# Altium schematic symbol library Memory_Expansion_Daughter_Board_SchLib.SchLib: 17 symbols
Pins are listed as number, name and electrical type; pins without a type are passive.

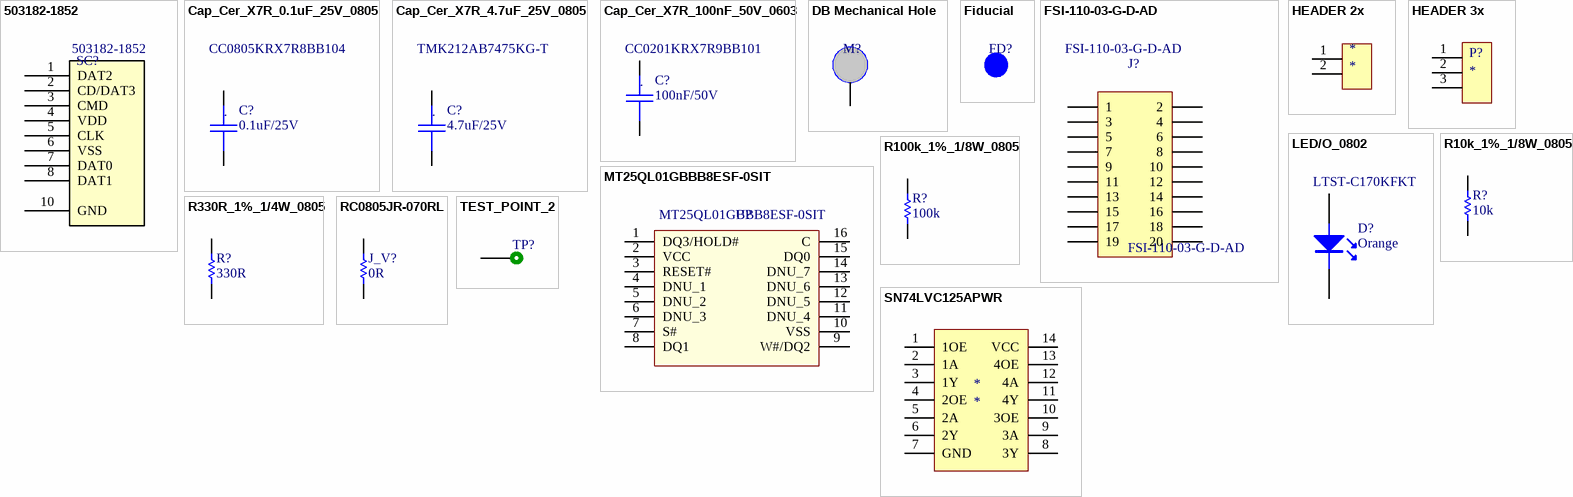
[diagram p0: symbols 503182-1852 to TEST_POINT_2]

## 503182-1852
designator SC?, comment Manufacturer Part Number: 503182-1852  (hidden comment: MicroSD Card Connector)
MOLEX - 503182-1852 - Micro SD Normal UltraLowPro8CktEmbsTpPkg RoHS Compliant: Yes; Gender: Male; Number of Circuits: 8; Pitch: 1.1mm; Supplier 1: Digi-Key; Supplier Part Number 1: WM12834CT-ND; Manufacturer: Molex; Stock 1: 15724; Pricing 1: 1=2.45, 10=2.224, 25=2.0884, 50=1.9974, 100=1.9067, 250=1.72508, 500=1.5889 (USD); Mount: Surface Mount; Contact Material: Copper Alloy; Contact Plating: Gold; Housing Material: Polymer; Min Operating Temperature: -25°C; Max Operating Temperature: 85°C; Number of Rows: 1; Package Quantity: 1600; Packaging: Tape and Reel; Connector Type: Connector; Termination: Solder; Orientation: Right Angle; Length: 15.2mm; Depth: 14.95mm; REACH SVHC: No SVHC; Halogen Free: Low Halogen; ComponentLink1URL: https://www.molex.com/pdm_docs/sd/5031821852_sd.pdf?src-supplier=Digi-Key; ComponentLink1Description: https://www.molex.com/pdm_docs/sd/5031821852_sd.pdf?src-supplier=Digi-Key; ComponentLink2URL: http://www.farnell.com/datasheets/2701359.pdf?src-supplier=Element14; ComponentLink2Description: http://www.farnell.com/datasheets/2701359.pdf?src-supplier=Element14; ComponentLink3URL: http://www.farnell.com/datasheets/2701359.pdf?src-supplier=Farnell; ComponentLink3Description: http://www.farnell.com/datasheets/2701359.pdf?src-supplier=Farnell; ComponentLink4URL: http://www.molex.com/pdm_docs/sd/5031821852_sd.pdf?src-supplier=Digi-Key; ComponentLink4Description: http://www.molex.com/pdm_docs/sd/5031821852_sd.pdf?src-supplier=Digi-Key; ComponentLink5URL: http://components.arrow.com/part/dataview/0323_07103516?src-supplier=Arrow+Europe; ComponentLink5Description: http://components.arrow.com/part/dataview/0323_07103516?src-supplier=Arrow+Europe; ComponentLink6URL: http://www.farnell.com/datasheets/2701359.pdf?src-supplier=Newark; ComponentLink6Description: http://www.farnell.com/datasheets/2701359.pdf?src-supplier=Newark; Supplier 2: Mouser; Supplier Part Number 2: 538-503182-1852; Stock 2: 10562; Pricing 2: 1=2.22, 10=1.81, 100=1.56, 500=1.44, 1000=1.23, 1600=1.15, 4800=1.07, 9600=1.03, 24000=1 (USD)
footprint USD_CARD
pins: 1 DAT2, 2 CD/DAT3, 3 CMD, 4 VDD, 5 CLK, 6 VSS, 7 DAT0, 8 DAT1, 10 GND

## Cap_Cer_X7R_0.1uF_25V_0805
designator C?, comment 0.1uF/25V  Manufacturer Part Number: CC0805KRX7R8BB104
CAP CER 0.1UF 25V 10% X7R 0805; Manufacturer: Yageo; Material: Ceramic; Capacitance: 100nF; Insulation Resistance: 100GR; Partnumber: CC0805KRX7R8BB104; NCM: 8532.24.10; Stock 1: 243958; Pricing 1: 1=0.14, 10=0.097, 100=0.0458, 500=0.0321, 1000=0.02658 (USD); Mount: Surface Mount; Case/Package: 0805; Number of Pins: 2; Case Code (Metric): 2012; Case Code (Imperial): 0805; Min Operating Temperature: -55°C; Max Operating Temperature: 125°C; Tolerance: 10%; Dielectric: X7R; Package Quantity: 1; Voltage Rating: 25V; Packaging: Tape and Reel; Voltage Rating (DC): 25V; Termination: SMD/SMT; Composition: Ceramic; Length: 2mm; Height: 0.85mm; Depth: 1.25mm; Width: 0.049inch; Thickness: 0.033inch; Radiation Hardening: No; REACH SVHC: No SVHC; Lead Free: Lead Free; Halogen Free: Halogen Free; ComponentLink3URL: http://www.yageo.com/documents/recent/UPY-GPHC_X7R_6.3V-to-50V_18.pdf?src-supplier=Digi-Key; ComponentLink3Description: http://www.yageo.com/documents/recent/UPY-GPHC_X7R_6.3V-to-50V_18.pdf?src-supplier=Digi-Key; ComponentLink4URL: http://www.farnell.com/datasheets/1489800.pdf?src-supplier=Element14; ComponentLink4Description: http://www.farnell.com/datasheets/1489800.pdf?src-supplier=Element14; ComponentLink5URL: http://www.farnell.com/datasheets/1850775.pdf?src-supplier=Element14; ComponentLink5Description: http://www.farnell.com/datasheets/1850775.pdf?src-supplier=Element14; ComponentLink6URL: https://www.verical.com/server-webapp/html/getDatasheet?partID=330244&src-supplier=Verical; ComponentLink6Description: https://www.verical.com/server-webapp/html/getDatasheet?partID=330244&src-supplier=Verical; ComponentLink7URL: http://www.yageo.com/documents/recent/UPY-GPHC_X7R_6.3V-to-50V_8.pdf?src-supplier=Avnet+Europe; ComponentLink7Description: http://www.yageo.com/documents/recent/UPY-GPHC_X7R_6.3V-to-50V_8.pdf?src-supplier=Avnet+Europe; ComponentLink8URL: http://www.farnell.com/datasheets/1784427.pdf?src-supplier=Element14; ComponentLink8Description: http://www.farnell.com/datasheets/1784427.pdf?src-supplier=Element14; ComponentLink9URL: http://www.farnell.com/datasheets/70765.pdf?src-supplier=Element14; ComponentLink9Description: http://www.farnell.com/datasheets/70765.pdf?src-supplier=Element14; Stock 2: 131050; Pricing 2: 1=0.11, 10=0.08, 100=0.03, 1000=0.025, 4000=0.019, 8000=0.018, 24000=0.015, 48000=0.014, 100000=0.013 (USD); ComponentLink1URL: http://www.yageo.com/documents/recent/UPY-GPHC_X7R_6.3V-to-50V_18.pdf?src-supplier=Digi-Key; ComponentLink1Description: http://www.yageo.com/documents/recent/UPY-GPHC_X7R_6.3V-to-50V_18.pdf?src-supplier=Digi-Key; ComponentLink2URL: http://www.farnell.com/datasheets/1489800.pdf?src-supplier=Element14; ComponentLink2Description: http://www.farnell.com/datasheets/1489800.pdf?src-supplier=Element14; Supplier Part Number 2: 603-CC805KRX7R8BB104; Supplier Part Number 1: 311-1141-1-ND; Supplier 2: Mouser; Supplier 1: Digi-Key
footprint C0805_MD (Chip Capacitor, Body 2.0x1.3mm, IPC Medium Density)
pins: 1, 2
text: .

## Cap_Cer_X7R_4.7uF_25V_0805
designator C?, comment 4.7uF/25V  Manufacturer Part Number: TMK212AB7475KG-T
CAP CER 4.7UF 25V 10% X7R 0805; Partnumber: C0805C475K3RACAUTO; Manufacturer: Taiyo Yuden; NCM: 8532.24.10; ComponentLink1Description: https://www.digikey.com/product-detail/en/taiyo-yuden/TMK212AB7475KG-T/587-2990-2-ND/2714168; ComponentLink1URL: https://www.digikey.com/product-detail/en/taiyo-yuden/TMK212AB7475KG-T/587-2990-2-ND/2714168; ComponentLink2Description: https://br.mouser.com/ProductDetail/Taiyo-Yuden/TMK212AB7475KG-T?qs=%2Fha2pyFaduhOmvqoBXaf2AOtUPA8upoo0e72F1hCYb1lacT8UkHI0g%3D%3D; ComponentLink2URL: https://br.mouser.com/ProductDetail/Taiyo-Yuden/TMK212AB7475KG-T?qs=%2Fha2pyFaduhOmvqoBXaf2AOtUPA8upoo0e72F1hCYb1lacT8UkHI0g%3D%3D; Stock 1: 1594936; Pricing 1: 1=0.35, 10=0.243, 100=0.1376, 500=0.09716, 1000=0.08501 (USD); Mount: Surface Mount; Case/Package: 0805; Number of Pins: 2; Case Code (Metric): 2012; Case Code (Imperial): 0805; Min Operating Temperature: -55°C; Max Operating Temperature: 125°C; Package Quantity: 1; Capacitance: 4.7uF; Voltage Rating: 25V; Tolerance: 10%; Packaging: Tape and Reel; Voltage Rating (DC): 25V; Dielectric: X7R; Termination: SMD/SMT; Composition: Ceramic; Length: 2mm; Height: 1.25mm; Width: 0.049inch; Thickness: 0.053inch; Depth: 1.25mm; Radiation Hardening: No; REACH SVHC: Unknown; ComponentLink3URL: https://www.yuden.co.jp/productdata/catalog/mlcc_all_e.pdf?src-supplier=Digi-Key; ComponentLink3Description: https://www.yuden.co.jp/productdata/catalog/mlcc_all_e.pdf?src-supplier=Digi-Key; ComponentLink4URL: http://www.yuden.co.jp/ut/product/category/capacitor/TMK212AB7475KG-T.pdf?src-supplier=Avnet; ComponentLink4Description: http://www.yuden.co.jp/ut/product/category/capacitor/TMK212AB7475KG-T.pdf?src-supplier=Avnet; ComponentLink5URL: http://www.farnell.com/datasheets/1481447.pdf?src-supplier=Element14; ComponentLink5Description: http://www.farnell.com/datasheets/1481447.pdf?src-supplier=Element14; ComponentLink6URL: http://www.onlinecomponents.com/productFiles/mf-TAI/461tmk212ab7475kg-t.pdf?src-supplier=Onlinecomponents.com; ComponentLink6Description: http://www.onlinecomponents.com/productFiles/mf-TAI/461tmk212ab7475kg-t.pdf?src-supplier=Onlinecomponents.com; Supplier 1: Digi-Key; Supplier Part Number 1: 587-2990-6-ND; Supplier 2: Mouser; Supplier Part Number 2: 963-TMK212AB7475KG-T; Stock 2: 326053; Pricing 2: 1=0.27, 10=0.124, 100=0.083, 500=0.074, 1000=0.065, 3000=0.054 (USD)
footprint C0805_MD (Chip Capacitor, Body 2.0x1.3mm, IPC Medium Density)
pins: 1, 2
text: .

## Cap_Cer_X7R_100nF_50V_0603
designator C?, comment 100nF/50V  Manufacturer Part Number: CC0201KRX7R9BB101
CAP CER 100nF 50V 0603 10%; Partnumber: C0603C104K5RAC3121; Manufacturer: Yageo; Capacitance: 100pF; Dielectric: X7R; NCM: 8532.24.10; ComponentLink1Description: https://www.digikey.com/product-detail/en/yageo/CC0201KRX7R9BB101/311-1401-1-ND/2833707; ComponentLink1URL: https://www.digikey.com/product-detail/en/yageo/CC0201KRX7R9BB101/311-1401-1-ND/2833707; ComponentLink2Description: https://br.mouser.com/ProductDetail/Yageo/CC0201KRX7R9BB101?qs=%2Fha2pyFaduiYipKOFrxfqt3%252B9aGSfhofiweIoBBppi5CkwQHqUahpQ%3D%3D; ComponentLink2URL: https://br.mouser.com/ProductDetail/Yageo/CC0201KRX7R9BB101?qs=%2Fha2pyFaduiYipKOFrxfqt3%252B9aGSfhofiweIoBBppi5CkwQHqUahpQ%3D%3D; Supplier 1: Digi-Key; Supplier Part Number 1: 311-1401-1-ND; Stock 1: 203642; Pricing 1: 1=0.1, 10=0.017, 100=0.0078, 500=0.00554, 1000=0.00436, 2500=0.00396, 5000=0.00364 (USD); Mount: Surface Mount; Case/Package: 0201; Weight: 6E-06oz; Case Code (Metric): 0603; Case Code (Imperial): 0201; Min Operating Temperature: -55°C; Max Operating Temperature: 125°C; Tolerance: 10%; Package Quantity: 1; Voltage Rating: 50V; Packaging: Tape and Reel; Voltage Rating (DC): 50V; Termination: SMD/SMT; Composition: Ceramic; Length: 0.6mm; Height: 0.3mm; Width: 0.012inch; Thickness: 0.013inch; Depth: 0.3mm; Radiation Hardening: No; Lead Free: Lead Free; Halogen Free: Halogen Free; ComponentLink3URL: http://www.yageo.com/documents/recent/UPY-GPHC_X7R_6.3V-to-50V_18.pdf?src-supplier=Digi-Key; ComponentLink3Description: http://www.yageo.com/documents/recent/UPY-GPHC_X7R_6.3V-to-50V_18.pdf?src-supplier=Digi-Key; ComponentLink4URL: http://www.yageo.com/documents/recent/UPY-GPHC_X7R_6.3V-to-50V_8.pdf?src-supplier=Avnet+Europe; ComponentLink4Description: http://www.yageo.com/documents/recent/UPY-GPHC_X7R_6.3V-to-50V_8.pdf?src-supplier=Avnet+Europe; ComponentLink5URL: http://www.yageo.com/documents/recent/UPY-GPHC_X7R_6.3V-to-50V_8.pdf?src-supplier=Avnet; ComponentLink5Description: http://www.yageo.com/documents/recent/UPY-GPHC_X7R_6.3V-to-50V_8.pdf?src-supplier=Avnet; ComponentLink6URL: http://www.mouser.com/ds/2/447/Yageo_UPY-GP_NP0_16V-to-50V_9-358835.pdf?src-supplier=Mouser; ComponentLink6Description: http://www.mouser.com/ds/2/447/Yageo_UPY-GP_NP0_16V-to-50V_9-358835.pdf?src-supplier=Mouser; Supplier 2: Mouser; Supplier Part Number 2: 603-CC201KRX7R9BB101; Stock 2: 51204; Pricing 2: 1=0.1, 10=0.024, 100=0.011, 1000=0.009, 2500=0.006, 10000=0.006 (USD)
footprint C0603_MD (Chip Capacitor, Body 1.6x0.8mm, IPC Medium Density)
pins: 1, 2
text: .

## DB Mechanical Hole
designator M?  (value not drawn)  (no BOM)
Mechanical Hole for DB board variants
footprint DB Mechanical Hole
pins: 0

## Fiducial
designator FD?  (value not drawn)  (no BOM)
Fiducial for DB board variants
footprint Fiducial 1.3mm

## FSI-110-03-G-D-AD
designator J?
CONN STACKING 20POS SMD GOLD; Manufacturer: Samtec; Number of Contacts: 20; Gender: Male; Pitch: 1mm; Value: *; Partnumber: FSI-110-03-G-D-AD; ComponentLink1Description: https://www.digikey.com/product-detail/en/samtec-inc/FSI-110-03-G-D-AD/SAM9412-ND/6678149; ComponentLink1URL: https://www.digikey.com/product-detail/en/samtec-inc/FSI-110-03-G-D-AD/SAM9412-ND/6678149; ComponentLink2Description: https://br.mouser.com/ProductDetail/Samtec/FSI-110-03-G-D-AD?qs=sGAEpiMZZMvffgRu4KC1RxM6nKwEP14AvPoIU%2FGiIRnIunfAN0MvNQ%3D%3D; ComponentLink2URL: https://br.mouser.com/ProductDetail/Samtec/FSI-110-03-G-D-AD?qs=sGAEpiMZZMvffgRu4KC1RxM6nKwEP14AvPoIU%2FGiIRnIunfAN0MvNQ%3D%3D; Supplier 1: Digi-Key; Supplier Part Number 1: SAM9412-ND; Stock 1: 100; Pricing 1: 1=6.6, 10=6.325, 25=5.7752, 50=5.5, 100=5.225, 250=4.675, 500=4.4, 1000=3.85, 2500=3.6575 (USD); Mount: Surface Mount; Contact Plating: Gold; Contact Material: Copper; Number of Rows: 2; Termination: Solder; Radiation Hardening: No; REACH SVHC: No SVHC; ComponentLink3URL: http://www.samtec.com/ftppub/pdf/FSI_03.PDF?src-supplier=Avnet+Europe; ComponentLink3Description: http://www.samtec.com/ftppub/pdf/FSI_03.PDF?src-supplier=Avnet+Europe; Supplier 2: Mouser; Supplier Part Number 2: 200-FSI11003GDAD; Stock 2: 50; Pricing 2: 1=6.59, 10=5.5, 100=4.68, 250=4.17, 500=3.84, 1000=3.6 (USD); Manufacturer Part Number: FSI-110-03-G-D-AD
footprint Mating FSI-110-03-G-D-AD
pins: 1, 2, 3, 4, 5, 6, 7, 8, 9, 10, 11, 12, 13, 14, 15, 16, 17, 18, 19, 20

## HEADER 2x
designator *
Conn Unshrouded Header HDR 2 POS 2.54mm Solder RA Thru-Hole Automotive Bulk; Manufacturer: Samtec; Manufacturer Part Number: TSW-102-08-G-S-RA; Number of Positions: 2; Connector Type: Male Pin; Gender: Male; Max Current Rating: 7.6A; Max Voltage Rating (AC): 450V; Supplier 1: Digi-Key; Stock 1: 681; Pricing 1: 1=0.28, 10=0.269, 25=0.2304, 50=0.1958, 100=0.1882, 250=0.16896, 500=0.16128 (USD); Contact Plating: Gold; Contact Material: Bronze; Color: Black; Housing Color: Black; Housing Material: Polyester; Min Operating Temperature: -55°C; Max Operating Temperature: 125°C; Number of Rows: 1; Termination: Solder; Packaging: Bulk; Number of Contacts: 2; Orientation: Right Angle; Package Quantity: 1; Length: 5.08mm; Pitch: 2.54mm; Width: 2.54mm; Depth: 9.9mm; Contact Mating Length: 0.23inch; Radiation Hardening: No; Lead Free: Lead Free; REACH SVHC: No SVHC; Supplier Part Number 1: SAM1039-02-ND; ComponentLink3Description: https://www.digikey.com/product-detail/en/samtec-inc/TSW-102-08-G-S-RA/SAM1039-02-ND/1101822; ComponentLink3URL: https://www.digikey.com/product-detail/en/samtec-inc/TSW-102-08-G-S-RA/SAM1039-02-ND/1101822; ComponentLink4Description: https://br.mouser.com/ProductDetail/Samtec/TSW-102-08-G-S-RA?qs=sGAEpiMZZMs%252BGHln7q6pm8Vn94ktop%2FJ1uezLg%252BX1dFCcXJp94NfRw%3D%3D; ComponentLink4URL: https://br.mouser.com/ProductDetail/Samtec/TSW-102-08-G-S-RA?qs=sGAEpiMZZMs%252BGHln7q6pm8Vn94ktop%2FJ1uezLg%252BX1dFCcXJp94NfRw%3D%3D; ComponentLink1URL: http://www.samtec.com/ftppub/pdf/htsw_th.pdf?src-supplier=Avnet; ComponentLink1Description: http://www.samtec.com/ftppub/pdf/htsw_th.pdf?src-supplier=Avnet; ComponentLink2URL: http://suddendocs.samtec.com/prints/tsw-xxx-xx-x-x-xx-xxx-footprint.pdf?src-supplier=Digi-Key; ComponentLink2Description: http://suddendocs.samtec.com/prints/tsw-xxx-xx-x-x-xx-xxx-footprint.pdf?src-supplier=Digi-Key; Supplier 2: Mouser; Supplier Part Number 2: 200-TSW10208GSRA; Stock 2: 90; Pricing 2: 1=0.29, 10=0.203, 100=0.167, 1000=0.14, 2500=0.119, 10000=0.108 (USD)
footprint HEADER 1X2
pins: 1, 2

## HEADER 3x
designator P?
Conn Unshrouded Header HDR 3 POS 2.54mm Solder RA Thru-Hole Automotive Bulk; Manufacturer: Samtec; Manufacturer Part Number: TSW-103-08-G-S-RA; Number of Contacts: 3; Connector Type: Male Pin; Gender: Male; Max Current Rating: 7.6A; Max Voltage Rating (AC): 450V; Supplier 1: Digi-Key; Stock 1: 2099; Pricing 1: 1=0.43, 10=0.403, 25=0.3456, 50=0.2938, 100=0.2822, 250=0.25344, 500=0.24192 (USD); Contact Plating: Gold; Contact Material: Bronze; Color: Black; Housing Color: Black; Housing Material: Polyester; Min Operating Temperature: -55°C; Max Operating Temperature: 125°C; Number of Rows: 1; Termination: Solder; Packaging: Bulk; Number of Positions: 3; Package Quantity: 1; Orientation: Right Angle; Length: 7.62mm; Pitch: 2.54mm; Depth: 9.9mm; Contact Mating Length: 0.23inch; Width: 2.54mm; Radiation Hardening: No; REACH SVHC: No SVHC; Lead Free: Lead Free; Supplier Part Number 1: SAM1039-03-ND; ComponentLink4Description: https://www.digikey.com/product-detail/en/samtec-inc/TSW-103-08-G-S-RA/SAM1039-03-ND/1101821; ComponentLink4URL: https://www.digikey.com/product-detail/en/samtec-inc/TSW-103-08-G-S-RA/SAM1039-03-ND/1101821; ComponentLink5Description: https://br.mouser.com/ProductDetail/Samtec/TSW-103-08-G-S-RA?qs=sGAEpiMZZMs%252BGHln7q6pm1g2HIpDMMemHovqpYNR5zQ9xV6Y7S0zpg%3D%3D; ComponentLink5URL: https://br.mouser.com/ProductDetail/Samtec/TSW-103-08-G-S-RA?qs=sGAEpiMZZMs%252BGHln7q6pm1g2HIpDMMemHovqpYNR5zQ9xV6Y7S0zpg%3D%3D; ComponentLink1URL: http://www.samtec.com/ftppub/pdf/htsw_th.pdf?src-supplier=Avnet+Europe; ComponentLink1Description: http://www.samtec.com/ftppub/pdf/htsw_th.pdf?src-supplier=Avnet+Europe; ComponentLink2URL: http://www.samtec.com/ftppub/pdf/htsw_th.pdf?src-supplier=Avnet; ComponentLink2Description: http://www.samtec.com/ftppub/pdf/htsw_th.pdf?src-supplier=Avnet; ComponentLink3URL: http://suddendocs.samtec.com/prints/tsw-xxx-xx-x-x-xx-xxx-footprint.pdf?src-supplier=Digi-Key; ComponentLink3Description: http://suddendocs.samtec.com/prints/tsw-xxx-xx-x-x-xx-xxx-footprint.pdf?src-supplier=Digi-Key; Supplier 2: Mouser; Supplier Part Number 2: 200-TSW10308GSRA; Stock 2: 1859; Pricing 2: 1=0.44, 10=0.303, 100=0.249, 1000=0.208, 2500=0.178, 10000=0.16 (USD)
footprint Header1x3
pins: 1, 2, 3

## LED/O_0802
designator D?, comment Orange  Manufacturer Part Number: LTST-C170KFKT
SMD Orange LED; Manufacturer: Vishay Lite-On; Lens Color: Colorless; Luminous Intensity: 60mcd; Forward Current: 30mA; Viewing Angle: 130°; Forward Voltage: 2V; Lens Style: Diffused,Colorless,Rectangular,Clear; Dominant Wavelength: 605nm; Test Current: 20mA; Lens Transparency: Clear; Wavelength: 611nm; Number of LEDs: 1; Power Rating: 75mW; Reverse Voltage: 5V; Partnumber: LTST-C170KFKT; NCM: 8541.40.21; ComponentLink1Description: https://www.digikey.com/product-detail/en/lite-on-inc/LTST-C170KFKT/160-1413-1-ND/386774; ComponentLink1URL: https://www.digikey.com/product-detail/en/lite-on-inc/LTST-C170KFKT/160-1413-1-ND/386774; ComponentLink2Description: https://br.mouser.com/ProductDetail/Lite-On/LTST-C170KFKT?qs=%2Fha2pyFadugHsX7bdQzWjMrioqtf8F%2FEFUVxYkqdVx%252BrRWuVMVludQ%3D%3D; ComponentLink2URL: https://br.mouser.com/ProductDetail/Lite-On/LTST-C170KFKT?qs=%2Fha2pyFadugHsX7bdQzWjMrioqtf8F%2FEFUVxYkqdVx%252BrRWuVMVludQ%3D%3D; Supplier 1: Digi-Key; Supplier Part Number 1: 160-1413-1-ND; Stock 1: 5261; Pricing 1: 1=0.28, 10=0.204, 100=0.0968, 500=0.0645, 1000=0.05053 (USD); Mount: Surface Mount; Case/Package: 0805; Number of Pins: 2; Color: Orange; Case Code (Metric): 2012; Case Code (Imperial): 0805; Min Operating Temperature: -55°C; Max Operating Temperature: 85°C; Packaging: Tape and Reel; Package Quantity: 1; Illumination Color: Orange; Number of Elements: 1; Power Dissipation: 75mW; Length: 3.2mm; Height: 1.1mm; Width: 1.25mm; Depth: 1.6mm; Radiation Hardening: No; Lead Free: Lead Free; ComponentLink3URL: https://www.verical.com/server-webapp/html/getDatasheet?partID=158266&src-supplier=Verical; ComponentLink3Description: https://www.verical.com/server-webapp/html/getDatasheet?partID=158266&src-supplier=Verical; ComponentLink4URL: http://optoelectronics.liteon.com/upload/download/DS-22-99-0185/LTST-C170KFKT.pdf?src-supplier=Digi-Key; ComponentLink4Description: http://optoelectronics.liteon.com/upload/download/DS-22-99-0185/LTST-C170KFKT.pdf?src-supplier=Digi-Key; ComponentLink5URL: http://www1.futureelectronics.com/doc/LITE-ON/LTST-C170KFKT.pdf?src-supplier=Future+Electronics; ComponentLink5Description: http://www1.futureelectronics.com/doc/LITE-ON/LTST-C170KFKT.pdf?src-supplier=Future+Electronics; ComponentLink6URL: http://www.mouser.com/ds/2/239/Lite-On-LTST-C170KFKT-187690.pdf?src-supplier=Mouser; ComponentLink6Description: http://www.mouser.com/ds/2/239/Lite-On-LTST-C170KFKT-187690.pdf?src-supplier=Mouser; Supplier 2: Mouser; Supplier Part Number 2: 859-LTST-C170KFKT; Stock 2: 0; Pricing 2: 1=0.28, 10=0.15, 100=0.07, 1000=0.051, 3000=0.043, 9000=0.039, 24000=0.035, 45000=0.032, 99000=0.03 (USD)
footprint 0805-LED
pins: 1 A, 2 K

## MT25QL01GBBB8ESF-0SIT
designator U?
NOR Flash Serial-SPI 3V 1Gbit 1024M/512M/256M x 1bit/2bit/4bit 6ns 16-Pin SOP-II; Manufacturer: Micron Technology; Interface: SPI,Serial; Min Supply Voltage: 2.7V; Density: 1Gb; Max Supply Voltage: 3.6V; Page Size: 256B; Supplier 1: Digi-Key; Supplier Part Number 1: 557-1789-ND; Stock 1: 1351; Pricing 1: 1=10.53, 10=9.755, 25=9.534, 50=9.4818, 100=8.3474, 250=7.9344, 500=7.85296, 1000=7.59119 (USD); Mount: Surface Mount; Case/Package: SOP; Number of Pins: 16; Contact Plating: Tin,Matte; Min Operating Temperature: -40°C; Max Operating Temperature: 85°C; Memory Type: NOR; Operating Supply Voltage: 3V; Access Time: 6ns; ComponentLink1URL: https://www.micron.com/~/media/documents/products/data-sheet/nor-flash/serial-nor/mt25q/die-rev-b/mt25q_qlkt_l_01g_bbb_0.pdf?src-supplier=Digi-Key; ComponentLink1Description: https://www.micron.com/~/media/documents/products/data-sheet/nor-flash/serial-nor/mt25q/die-rev-b/mt25q_qlkt_l_01g_bbb_0.pdf?src-supplier=Digi-Key; ComponentLink2URL: http://www.micron.com/~/media/documents/products/data-sheet/nor-flash/serial-nor/mt25q/mt25q_qlkt_l_01g_bbb_0.pdf?src-supplier=Avnet+Asia; ComponentLink2Description: http://www.micron.com/~/media/documents/products/data-sheet/nor-flash/serial-nor/mt25q/mt25q_qlkt_l_01g_bbb_0.pdf?src-supplier=Avnet+Asia; Supplier 2: Mouser; Supplier Part Number 2: 340-278808-TRAY; Stock 2: 2389; Pricing 2: 1=12, 10=11.04, 25=10.81, 50=10.77, 100=9.67, 250=9.37, 500=8.91, 1000=8.6, 2000=7.97 (USD); Manufacturer Part Number: MT25QL01GBBB8ESF-0SIT
footprint SOIC127P1032X265-16N
pins: 1 DQ3/HOLD#, 2 VCC, 3 RESET#, 4 DNU_1, 5 DNU_2, 6 DNU_3, 7 S#, 8 DQ1, 9 W#/DQ2, 10 VSS, 11 DNU_4, 12 DNU_5, 13 DNU_6, 14 DNU_7, 15 DQ0, 16 C

## R10k_1%_1/8W_0805
designator R?, comment 10k
RES 10K OHM 1/8W 1%  0805; Partnumber: CRCW080510K0FKEA; Manufacturer: Vishay; Resistance: 10kR; Temperature Coefficient: 100ppm/°C; Power Rating: 125mW; Voltage Rating: 150V; NCM: 8533.21.20; ComponentLink1Description: https://www.digikey.com/product-detail/en/vishay-dale/CRCW080510K0FKEA/541-10-0KCCT-ND/1180897; ComponentLink1URL: https://www.digikey.com/product-detail/en/vishay-dale/CRCW080510K0FKEA/541-10-0KCCT-ND/1180897; ComponentLink2Description: https://br.mouser.com/ProductDetail/Vishay-Dale/CRCW080510K0FKEA?qs=sGAEpiMZZMu61qfTUdNhG2DpbjADlD3GOIdKSeOTyFU%3D; ComponentLink2URL: https://br.mouser.com/ProductDetail/Vishay-Dale/CRCW080510K0FKEA?qs=sGAEpiMZZMu61qfTUdNhG2DpbjADlD3GOIdKSeOTyFU%3D; Supplier 1: Digi-Key; Supplier Part Number 1: 541-10.0KCCT-ND; Stock 1: 1478098; Pricing 1: 1=0.1, 10=0.062, 100=0.0254, 1000=0.01142, 2500=0.00991 (USD); Case/Package: 0805; Weight: 0.000194oz; Contact Plating: Tin; Case Code (Imperial): 0805; Case Code (Metric): 2012; Min Operating Temperature: -55°C; Max Operating Temperature: 155°C; Tolerance: 1%; Composition: Thick Film; Packaging: Tape and Reel; Package Quantity: 5000; Military Standard: Not; Termination: SMD/SMT; Voltage Rating (DC): 150V; Length: 2mm; Height: 0.45mm; Width: 1.25mm; Depth: 1.25mm; Radiation Hardening: No; Lead Free: Lead Free; REACH SVHC: Unknown; ComponentLink3URL: http://www.mouser.com/ds/2/427/dcrcwe3-109170.pdf?src-supplier=Mouser; ComponentLink3Description: http://www.mouser.com/ds/2/427/dcrcwe3-109170.pdf?src-supplier=Mouser; ComponentLink4URL: http://uk.rs-online.com/webdocs/0d98/0900766b80d98b26.pdf?src-supplier=RSComponents; ComponentLink4Description: http://uk.rs-online.com/webdocs/0d98/0900766b80d98b26.pdf?src-supplier=RSComponents; ComponentLink5URL: http://www.alliedelec.com/m/d/0c934d6939ccefa68dbe0b96d821c8cf.pdf?src-supplier=Allied+Electronics; ComponentLink5Description: http://www.alliedelec.com/m/d/0c934d6939ccefa68dbe0b96d821c8cf.pdf?src-supplier=Allied+Electronics; ComponentLink6URL: http://www.vishay.com/docs/20035/dcrcwe3.pdf?src-supplier=Avnet+Asia; ComponentLink6Description: http://www.vishay.com/docs/20035/dcrcwe3.pdf?src-supplier=Avnet+Asia; ComponentLink7URL: http://www.vishay.com/docs/20035/dcrcwe3.pdf?src-supplier=Avnet+Europe; ComponentLink7Description: http://www.vishay.com/docs/20035/dcrcwe3.pdf?src-supplier=Avnet+Europe; ComponentLink8URL: http://www.farnell.com/datasheets/2310790.pdf?src-supplier=Element14; ComponentLink8Description: http://www.farnell.com/datasheets/2310790.pdf?src-supplier=Element14; ComponentLink9URL: http://www.vishay.com/docs/20035/dcrcwe3.pdf?src-supplier=Avnet; ComponentLink9Description: http://www.vishay.com/docs/20035/dcrcwe3.pdf?src-supplier=Avnet; ComponentLink10URL: http://www.vishay.com/docs/20035/dcrcwe3.pdf?src-supplier=Future+Electronics; ComponentLink10Description: http://www.vishay.com/docs/20035/dcrcwe3.pdf?src-supplier=Future+Electronics; Supplier 2: Mouser; Supplier Part Number 2: 71-CRCW0805-10K-E3; Stock 2: 157494; Pricing 2: 1=0.1, 10=0.062, 100=0.025, 1000=0.01, 5000=0.007, 10000=0.006 (USD); Manufacturer Part Number: CRCW080510K0FKEA
footprint 0805
pins: 1, 2

## R100k_1%_1/8W_0805
designator R?, comment 100k
RES 100K OHM 1/8W 1% 0805; Partnumber: AC0805FR-13100KL; Manufacturer: Yageo; Manufacturer Part Number: RC0805FR-07100KL; Resistance: 100kR; Temperature Coefficient: 100ppm/°C; Power Rating: 125mW; Voltage Rating (DC): 150V; NCM: 8533.21.20; ComponentLink1Description: https://www.digikey.com/product-detail/en/yageo/RC0805FR-07100KL/311-100KCRCT-ND/730491; ComponentLink1URL: https://www.digikey.com/product-detail/en/yageo/RC0805FR-07100KL/311-100KCRCT-ND/730491; ComponentLink2Description: https://br.mouser.com/ProductDetail/Yageo/RC0805FR-07100KL?qs=%2Fha2pyFadugqH4HCO4lefXR2vnSIcQedeLFD%252BIWbuSwm%252BtiKkObUBg%3D%3D; ComponentLink2URL: https://br.mouser.com/ProductDetail/Yageo/RC0805FR-07100KL?qs=%2Fha2pyFadugqH4HCO4lefXR2vnSIcQedeLFD%252BIWbuSwm%252BtiKkObUBg%3D%3D; Supplier 1: Digi-Key; Supplier Part Number 1: 311-100KCRCT-ND; Stock 1: 5685931; Pricing 1: 1=0.1, 10=0.04, 100=0.0163, 1000=0.00731, 2500=0.00635 (USD); Case/Package: 0805; Number of Pins: 2; Case Code (Metric): 2012; Case Code (Imperial): 0805; Min Operating Temperature: -55°C; Max Operating Temperature: 155°C; Composition: Thick Film; Tolerance: 1%; Packaging: Tape and Reel; Voltage Rating: 150V; Package Quantity: 1; Number of Terminations: 2; Termination: SMD/SMT; Military Standard: Not; Max Power Dissipation: 125mW; Features: Moisture Resistant; Length: 2mm; Height: 0.024inch; Width: 0.049inch; Depth: 1.25mm; Lead Pitch: 0.4mm; REACH SVHC: Unknown; Lead Free: Lead Free; ComponentLink3URL: http://www.yageo.com/documents/recent/PYu-RC_Group_51_RoHS_L_10.pdf?src-supplier=Digi-Key; ComponentLink3Description: http://www.yageo.com/documents/recent/PYu-RC_Group_51_RoHS_L_10.pdf?src-supplier=Digi-Key; ComponentLink4URL: http://www.yageo.com/documents/recent/PYu-RC_Group_51_RoHS_L_9.pdf?src-supplier=Mouser; ComponentLink4Description: http://www.yageo.com/documents/recent/PYu-RC_Group_51_RoHS_L_9.pdf?src-supplier=Mouser; ComponentLink5URL: http://documents.rs-components.com/techlib://itc_doclist_GB.htm?stockno=6185113&src-supplier=RSComponents; ComponentLink5Description: http://documents.rs-components.com/techlib://itc_doclist_GB.htm?stockno=6185113&src-supplier=RSComponents; ComponentLink6URL: http://www.yageo.ru/pdf/RC0805.pdf?src-supplier=Future+Electronics; ComponentLink6Description: http://www.yageo.ru/pdf/RC0805.pdf?src-supplier=Future+Electronics; ComponentLink7URL: http://www.farnell.com/datasheets/38627.pdf?src-supplier=Element14; ComponentLink7Description: http://www.farnell.com/datasheets/38627.pdf?src-supplier=Element14; ComponentLink8URL: http://www.farnell.com/datasheets/2167052.pdf?src-supplier=Element14; ComponentLink8Description: http://www.farnell.com/datasheets/2167052.pdf?src-supplier=Element14; ComponentLink9URL: http://www.farnell.com/datasheets/1686128.pdf?src-supplier=Element14; ComponentLink9Description: http://www.farnell.com/datasheets/1686128.pdf?src-supplier=Element14; ComponentLink10URL: http://www.farnell.com/datasheets/444164.pdf?src-supplier=Element14; ComponentLink10Description: http://www.farnell.com/datasheets/444164.pdf?src-supplier=Element14; Supplier 2: Mouser; Supplier Part Number 2: 603-RC0805FR-07100KL; Stock 2: 2067874; Pricing 2: 1=0.13, 10=0.031, 100=0.011, 1000=0.008, 5000=0.005, 10000=0.005 (USD)
footprint 0805
pins: 1, 2

## R330R_1%_1/4W_0805
designator R?, comment 330R
RES 330R OHM 1/4W 1% 0805; Partnumber: RC0805FR-07330RL; Manufacturer: KOA Speer; Manufacturer Part Number: RK73H2ATTD3300F; Power Rating: 125mW; Voltage Rating: 150V; Temperature Coefficient: 100ppm/°C; NCM: 8533.21.20; ComponentLink1Description: https://www.digikey.com/product-detail/en/koa-speer-electronics-inc/RK73H2ATTD3300F/2019-RK73H2ATTD3300FCT-ND/10235463; ComponentLink1URL: https://www.digikey.com/product-detail/en/koa-speer-electronics-inc/RK73H2ATTD3300F/2019-RK73H2ATTD3300FCT-ND/10235463; ComponentLink2Description: https://br.mouser.com/ProductDetail/KOA-Speer/RK73H2ATTD3300F?qs=%2Fha2pyFadugxRkEvlrt8CF%252BQdweyO24kpRel1WKIEPxDUp0ygGBU5A%3D%3D; ComponentLink2URL: https://br.mouser.com/ProductDetail/KOA-Speer/RK73H2ATTD3300F?qs=%2Fha2pyFadugxRkEvlrt8CF%252BQdweyO24kpRel1WKIEPxDUp0ygGBU5A%3D%3D; Supplier 1: Digi-Key; Supplier Part Number 1: 2019-RK73H2ATTD3300FCT-ND; Stock 1: 55895; Pricing 1: 1=0.1, 10=0.033, 100=0.0136, 1000=0.00612, 2500=0.00531 (USD); Case/Package: 0805; Case Code (Imperial): 0805; Case Code (Metric): 2012; Min Operating Temperature: -55°C; Max Operating Temperature: 155°C; Packaging: Tape and Reel; Package Quantity: 5000; Resistance: 330R; Tolerance: 1%; Composition: Thick Film; Termination: SMD/SMT; Military Standard: Not; Length: 2mm; Height: 0.5mm; Width: 1.25mm; Depth: 1.25mm; REACH SVHC: Unknown; Lead Free: Lead Free; ComponentLink3URL: http://www.koaspeer.com/catimages/Products/RK73H/RK73H.pdf?src-supplier=Mouser; ComponentLink3Description: http://www.koaspeer.com/catimages/Products/RK73H/RK73H.pdf?src-supplier=Mouser; ComponentLink4URL: http://www.farnell.com/datasheets/1832268.pdf?src-supplier=Element14; ComponentLink4Description: http://www.farnell.com/datasheets/1832268.pdf?src-supplier=Element14; Supplier 2: Mouser; Supplier Part Number 2: 660-RK73H2ATTD3300F; Stock 2: 0; Pricing 2: 1=0.1, 10=0.033, 100=0.013, 1000=0.005, 5000=0.005, 10000=0.004 (USD)
footprint 0805
pins: 1, 2

## RC0805JR-070RL
designator J_V?, comment 0R
RES 0R OHM 1/8W JUMPER 0805; Partnumber: CRCW08050000Z0EA; Manufacturer: Yageo; Manufacturer Part Number: RC0805JR-070RL; Resistance: 0mR; Tolerance: 5%; Power Rating: 125mW; Voltage Rating: 150V; Temperature Coefficient: 200ppm/°C; NCM: 8533.21.20; Supplier 1: Digi-Key; Supplier Part Number 1: 311-0.0ARCT-ND; Stock 1: 10579520; Pricing 1: 1=0.1, 10=0.035, 25=0.0248, 50=0.019, 100=0.014, 250=0.01072, 500=0.00856, 1000=0.00631 (USD); Case/Package: 0805; Number of Pins: 2; Contact Plating: Tin,Matte; Case Code (Imperial): 0805; Case Code (Metric): 2012; Min Operating Temperature: -55°C; Max Operating Temperature: 155°C; Composition: Thick Film; Packaging: Tape and Reel; Voltage Rating (DC): 150V; Termination: SMD/SMT; Military Standard: Not; Length: 2mm; Height: 0.5mm; Width: 1.25mm; Depth: 1.25mm; Radiation Hardening: No; REACH SVHC: Unknown; Lead Free: Lead Free; ComponentLink1URL: http://www.farnell.com/datasheets/2167052.pdf?src-supplier=Element14; ComponentLink1Description: http://www.farnell.com/datasheets/2167052.pdf?src-supplier=Element14; ComponentLink2URL: http://documents.rs-components.com/techlib://itc_doclist_GB.htm?stockno=6185129&src-supplier=RSComponents; ComponentLink2Description: http://documents.rs-components.com/techlib://itc_doclist_GB.htm?stockno=6185129&src-supplier=RSComponents; ComponentLink3URL: https://www.verical.com/server-webapp/html/getDatasheet?partID=330685&src-supplier=Verical; ComponentLink3Description: https://www.verical.com/server-webapp/html/getDatasheet?partID=330685&src-supplier=Verical; Supplier 2: Mouser; Supplier Part Number 2: 603-RC0805JR-070RL; Stock 2: 658275; Pricing 2: 1=0.1, 10=0.005, 100=0.005, 1000=0.005, 5000=0.004, 10000=0.004 (USD)
footprint 0805
pins: 1, 2

## SN74LVC125APWR
designator *
IC BUF NON-INVERT 3.6V 14TSSOP; Manufacturer: Texas Instruments; Manufacturer Part Number: SN74LVC125APWR; Number of Inputs: 4; Min Supply Voltage: 1.65V; Logic Function: Buffer,Inverting; Max Power Dissipation: 500mW; Propagation Delay: 4.6ns; Number of Bits per Element: 1; High Level Output Current: -24mA; Low Level Output Current: 24mA; Number of Output Lines: 3; Polarity: Non-Inverting; Turn-On Delay Time: 5.3ns; Quiescent Current: 1uA; Supplier 1: Digi-Key; Stock 1: 51249; Pricing 1: 1=0.35, 10=0.282, 25=0.258, 100=0.192, 250=0.174, 500=0.144, 1000=0.108 (USD); Mount: Surface Mount; Case/Package: TSSOP; Number of Pins: 14; Contact Plating: Gold; Min Operating Temperature: -40°C; Max Operating Temperature: 125°C; Package Quantity: 1; Number of Elements: 4; Packaging: Tape and Reel; Max Supply Voltage: 3.6V; Number of Channels: 4; Number of Outputs: 4; Number of Input Lines: 4; Number of Bits: 4; Termination: SMD/SMT; Number of Circuits: 4; Number of Gates: 4; Length: 5mm; Height: 1.15mm; Width: 4.4mm; Radiation Hardening: No; REACH SVHC: No SVHC; Lead Free: Lead Free; Supplier Part Number 1: 296-1222-1-ND; ComponentLink1Description: https://www.digikey.com/product-detail/en/texas-instruments/SN74LVC125APWR/296-1222-1-ND/276490; ComponentLink1URL: https://www.digikey.com/product-detail/en/texas-instruments/SN74LVC125APWR/296-1222-1-ND/276490; ComponentLink2Description: https://br.mouser.com/ProductDetail/Texas-Instruments/SN74LVC125APWR?qs=sGAEpiMZZMuiiWkaIwCK2SeqB8b8eM7HVlo3jiw3ikc%3D; ComponentLink2URL: https://br.mouser.com/ProductDetail/Texas-Instruments/SN74LVC125APWR?qs=sGAEpiMZZMuiiWkaIwCK2SeqB8b8eM7HVlo3jiw3ikc%3D; ComponentLink3URL: http://www.ti.com/lit/ds/symlink/sn74lvc125a.pdf?src-supplier=Digi-Key; ComponentLink3Description: http://www.ti.com/lit/ds/symlink/sn74lvc125a.pdf?src-supplier=Digi-Key; ComponentLink4URL: http://www.ti.com/general/docs/lit/getliterature.tsp?genericPartNumber=SN74LVC125A&&fileType=pdf&src-supplier=Avnet; ComponentLink4Description: http://www.ti.com/general/docs/lit/getliterature.tsp?genericPartNumber=SN74LVC125A&&fileType=pdf&src-supplier=Avnet; ComponentLink5URL: http://www.farnell.com/datasheets/1764352.pdf?src-supplier=Element14; ComponentLink5Description: http://www.farnell.com/datasheets/1764352.pdf?src-supplier=Element14; ComponentLink6URL: http://www.produktinfo.conrad.com/datenblaetter/1000000-1099999/001017107-da-01-en-IC_BUS_BUF_Q_SN74LVC125APWR_TSSOP_14_TID.pdf?src-supplier=Conrad; ComponentLink6Description: http://www.produktinfo.conrad.com/datenblaetter/1000000-1099999/001017107-da-01-en-IC_BUS_BUF_Q_SN74LVC125APWR_TSSOP_14_TID.pdf?src-supplier=Conrad; Supplier 2: Mouser; Supplier Part Number 2: 595-SN74LVC125APWR; Stock 2: 22689; Pricing 2: 1=0.34, 10=0.265, 100=0.143, 1000=0.107, 2000=0.092, 10000=0.086 (USD)
footprint SN74LVC125APWR
pins: 1 1OE, 2 1A, 3 1Y, 4 2OE, 5 2A, 6 2Y, 7 GND, 8 3Y, 9 3A, 10 3OE, 11 4Y, 12 4A, 13 4OE, 14 VCC

## TEST_POINT_2
designator TP?  (value not drawn)  (no BOM)
Test point
footprint TEST_POINT_2
pins: 1